# Altium footprint library PcbLib.PcbLib: 20 footprints (part 2 of 2)
Each footprint in its own frame and in the unit in brackets; x right, y up, seen from the top. Pads: shape width x height; smd on the part's side, far side on the other; paste and mask are expansions set on the pad; w line width, h text height; cw(c..) or ccw(c..) is an arc to the next point about the centre after c.
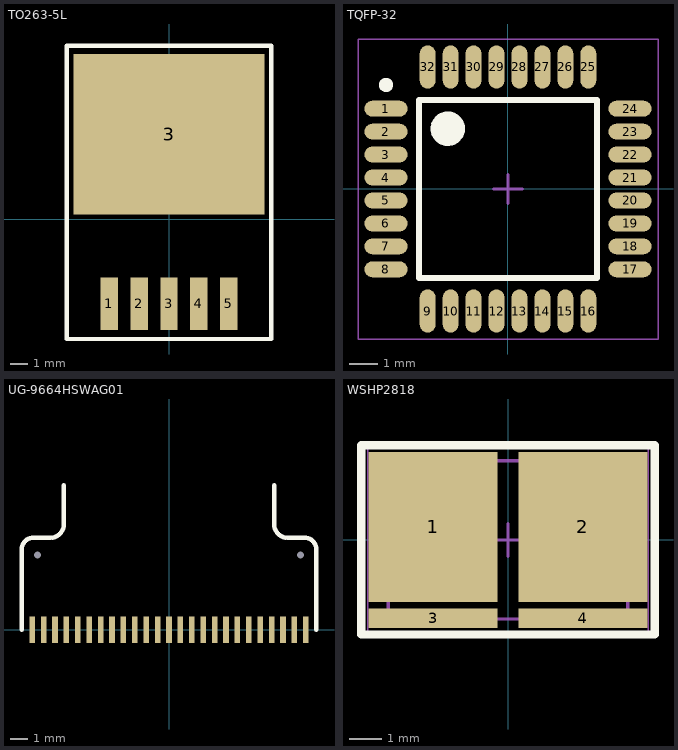
[diagram p1: the footprints below, top view; thin cyan lines are the x and y axes]

## TO263-5L [mm]
pads (6):
  rect 1x3 smd: 1(-3.42,-4.85) 2(-1.71,-4.85) 3(0,-4.85) 4(1.71,-4.85) 5(3.42,-4.85)
  rect 10.9x9.2 smd: 3(0,4.85)
Top Overlay:
  lines w0.254: -5.842,-6.858 5.842,-6.858 5.842,9.906 -5.842,9.906 -5.842,-6.858
3D body "User Library-TO-263-5.STEP": height 4.56, standoff 0, extent -5.08,-5.403 5.08,8.612

## TQFP-32 [mm]
height 1.2
pads (32):
  oval 1.5x0.55 smd: 1(-4.25,2.8) 2(-4.25,2) 3(-4.25,1.2) 4(-4.25,0.4) 5(-4.25,-0.4) 6(-4.25,-1.2) 7(-4.25,-2) 8(-4.25,-2.8) 17(4.25,-2.8) 18(4.25,-2) 19(4.25,-1.2) 20(4.25,-0.4) 21(4.25,0.4) 22(4.25,1.2) 23(4.25,2) 24(4.25,2.8)
  oval 0.55x1.5 smd: 9(-2.8,-4.25) 10(-2,-4.25) 11(-1.2,-4.25) 12(-0.4,-4.25) 13(0.4,-4.25) 14(1.2,-4.25) 15(2,-4.25) 16(2.8,-4.25) 25(2.8,4.25) 26(2,4.25) 27(1.2,4.25) 28(0.4,4.25) 29(-0.4,4.25) 30(-1.2,4.25) 31(-2,4.25) 32(-2.8,4.25)
Top Overlay:
  circle w0.6: c-2.1,2.1 r0.3
  circle w0.25: c-4.25,3.625 r0.125
  lines w0.2: -3.1,-3.1 3.1,-3.1 3.1,3.1 -3.1,3.1 -3.1,-3.1
Mechanical 15:
  lines w0.05: -5.225,-5.225 5.225,-5.225 5.225,5.225 -5.225,5.225 -5.225,-5.225
  lines w0.1: -0.5,0 0.5,0 ; 0,-0.5 0,0.5
3D body "User Library-tqfp32-0_8.step": height 1.2, standoff 0, extent -4.599,-4.627 4.599,4.572

## UG-9664HSWAG01 [mm]
pads (27):
  rect 0x0 hole 0.4: 0(-7.5,4.25) 0(7.5,4.25)
  rect 0.32x1.5 smd: 1(-7.8,0) 2(-7.15,0) 3(-6.5,0) 4(-5.85,0) 5(-5.2,0) 6(-4.55,0) 7(-3.9,0) 8(-3.25,0) 9(-2.6,0) 10(-1.95,0) 11(-1.3,0) 12(-0.65,0) 13(0,0) 14(0.65,0) 15(1.3,0) 16(1.95,0) 17(2.6,0) 18(3.25,0) 19(3.9,0) 20(4.55,0) 21(5.2,0) 22(5.85,0) 23(6.5,0) 24(7.15,0) 25(7.8,0)
Top Overlay:
  lines w0.254: -8.4,0 -8.4,4.576 cw(c-7.726,4.576) -7.726,5.25 -6.75,5.25 ccw(c-6.75,6) -6,6 -6,8.25 ; 6,8.25 6,6 ccw(c6.75,6) 6.75,5.25 7.726,5.25 cw(c7.726,4.576) 8.4,4.576 8.4,0

## WSHP2818 [mm] "Chip Resistor, 2-Leads, Body 7.10x4.60mm, IPC Medium Density"
height 1.5
pads (4):
  rect 3.95x4.6 smd: 1(-2.3,0.4) 2(2.3,0.4)
  rect 3.95x0.6 smd: 3(-2.3,-2.4) 4(2.3,-2.4)
Top Overlay:
  lines w0.254: -4.5,-2.9 4.5,-2.9 4.5,2.9 -4.5,2.9 -4.5,-2.9
Mechanical 13:
  lines w0.1: -3.675,-2.425 -3.675,2.425 3.675,2.425 3.675,-2.425 -3.675,-2.425
Mechanical 15:
  lines w0.05: -4.3,-2.9 -4.3,2.9 4.3,2.9 4.3,-2.9 -4.3,-2.9
  lines w0.1: -0.5,0 0.5,0 ; 0,-0.5 0,0.5
3D body: height 1.5, standoff 0, extent -0.535,-2.425 0.535,2.425
3D body: height 1.5, standoff 0, extent -3.675,-2.425 -0.535,2.425
3D body: height 1.5, standoff 0, extent 0.535,-2.425 3.675,2.425